# EAGLE library part 4PIN_JACK (library Simplex-Connectors)
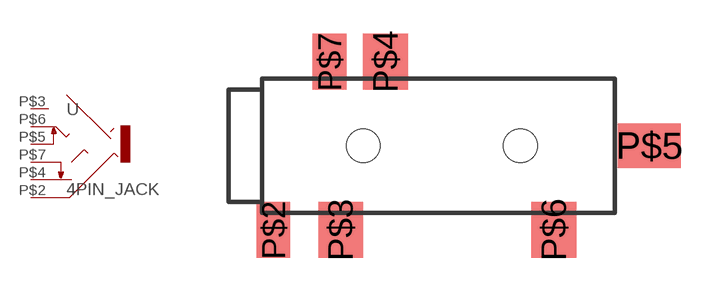
[diagram p10: symbol with the pads of 4PIN_JACK; footprint 4PIN_JACK]

Designator prefix -

## 4PIN_JACK  [4PIN_JACK]
P$2  2  pas
P$3  3  pas
P$4  4  pas
P$5  5  pas
P$6  6  pas
P$7  7  pas

## Footprint 4PIN_JACK (pad centres in mm)
smd 1.5 x 2.5: P$2 2,-3.75; P$7 4.5,3.75
smd 2 x 2.5: P$3 5,-3.75; P$4 7,3.75; P$6 14.5,-3.75
smd 2.8 x 2: P$5 18.75,0
hole 1.5 at 6,0
hole 1.5 at 13,0